# Altium schematic symbol library LSCB.SCHLIB: 94 symbols
Pins are listed as number, name and electrical type; pins without a type are passive.

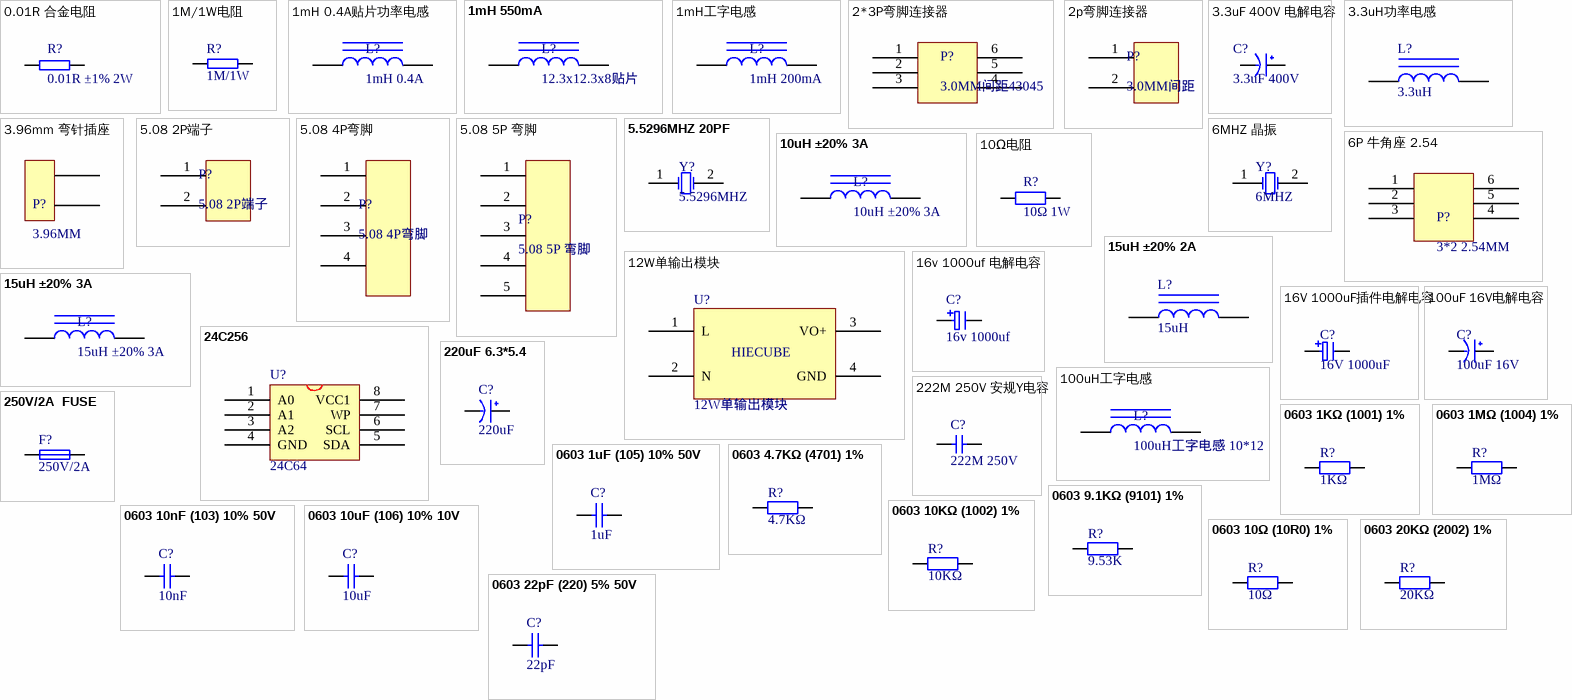
[diagram p0: symbols 0.01R 合金电阻 to 0603 22pF (220) 5% 50V]

## 0.01R 合金电阻
designator R?, comment 0.01R ±1% 2W
合金电阻; ComponentLink1Description: LC; ComponentLink1URL: https://item.szlcsc.com/69717.html
footprint 2512_R
pins: 1, 2

## 1M/1W电阻
designator R?, comment 1M/1W
电阻; 是否贴片: Y; ComponentLink1Description: 1218; ComponentLink1URL: https://item.szlcsc.com/187005.html; ComponentLink2Description: 插件; ComponentLink2URL: https://item.szlcsc.com/262747.html
footprint 泄放电阻
pins: 1, 2

## 1mH 0.4A贴片功率电感
designator L?, comment 1mH 0.4A
功率电感; ComponentLink1Description: FNR8065S102MT; ComponentLink1URL: https://item.szlcsc.com/179548.html; ComponentLink2Description: YNR8040-102M; ComponentLink2URL: https://item.szlcsc.com/318305.html
footprint FNR8065S (长江微电封闭式功率电感)
pins: 1, 2

## 1mH 550mA
designator L?, comment 12.3x12.3x8贴片
贴片功率电感; ComponentLink1Description: SXN; ComponentLink1URL: https://item.szlcsc.com/38464.html
footprint SMDRI127-102MT (1000uH ±20% 550mA)
pins: 1, 2

## 1mH工字电感
designator L?, comment 1mH 200mA
工字电感; ComponentLink1Description: SXN; ComponentLink1URL: https://item.szlcsc.com/27986.html
footprint 0608工字电感 (Footprint not found)
pins: 1, 2

## 2*3P弯脚连接器
designator P?, comment 3.0MM间距43045
PCB连接器; ComponentLink1Description: taobao; ComponentLink1URL: https://item.taobao.com/item.htm?spm=a1z09.2.0.0.20512e8d6q5xBr&id=534518784627&_u=5n70av7a8af
footprint 3.0mm 2*3p connector
pins: 1 15, 2 16, 3 17, 4 18, 5 19, 6 20

## 2p弯脚连接器
designator P?, comment 3.0MM间距
PCB连接器; ComponentLink1Description: 成套; ComponentLink1URL: https://item.taobao.com/item.htm?_u=6n70av72af4&id=531517058321; ComponentLink2Description: PCB座; ComponentLink2URL: https://item.taobao.com/item.htm?spm=2013.1.20141001.3.799636b2mcglLE&id=538107458803&scm=1007.12144.95220.42296_0&pvid=ca1741dd-b171-470b-ac9b-bd38a917f057&utparam=%7B%22x_hestia_source%22%3A%2242296%22%2C%22x_object_type%22%3A%22item%22%2C%22x_mt%22%3A0%2C%22x_src%22%3A%2242296%22%2C%22x_pos%22%3A3%2C%22x_pvid%22%3A%22ca1741dd-b171-470b-ac9b-bd38a917f057%22%2C%22x_object_id%22%3A538107458803%7D
footprint 3.0mm 2p connector
pins: 1, 2

## 3.3uF 400V 电解电容
designator C?, comment 3.3uF 400V
电解电容; ComponentLink1Description: lc; ComponentLink1URL: https://item.szlcsc.com/48911.html
footprint 6.3*12电解电容
pins: 1 VCC, 2 GND

## 3.3uH功率电感
designator L?, comment 3.3uH
贴片电感; Package: 0805; Supplier: LC; SuppliersPartNumber: C68035
footprint 功率电感3.3uH
pins: 1, 2

## 3.96mm 弯针插座
designator P?, comment 3.96MM
弯针插座; ComponentLink1Description: taobao; ComponentLink1URL: https://item.taobao.com/item.htm?spm=a1z10.3-c-s.w4002-16569462289.14.6c2f6a4bJFPH8g&id=522574898830; ComponentLink2Description: 插头; ComponentLink2URL: https://item.taobao.com/item.htm?spm=a1z10.5-c-s.w4002-21223910190.18.59cd3325Z7kJeH&id=522579292930
footprint HT396R (3.96mm 2p)
pins: 1 (power), 2 (power)

## 5.08 2P端子
designator P?
接线端子; ComponentLink1Description: taobao; ComponentLink1URL: https://detail.tmall.com/item.htm?spm=a230r.1.14.68.5ee57d4aczPgbH&id=13301862191&ns=1&abbucket=12&skuId=3609047311895
footprint 5.08 2P
pins: 1, 2

## 5.08 4P弯脚
designator P?
接线端子; ComponentLink1Description: taobao; ComponentLink1URL: https://detail.tmall.com/item.htm?spm=a230r.1.14.68.5ee57d4aczPgbH&id=13301862191&ns=1&abbucket=12&skuId=3609047311888
footprint 5.08 4P 弯 (Footprint not found)
pins: 1, 2, 3 (power), 4 (power)

## 5.08 5P 弯脚
designator P?
接线端子; ComponentLink1Description: taobao; ComponentLink1URL: https://detail.tmall.com/item.htm?spm=a230r.1.14.68.5ee57d4aczPgbH&id=13301862191&ns=1&abbucket=12&skuId=3609047311896
footprint 5.08 5P弯脚
pins: 1, 2, 3 (power), 4 (power), 5 (power)

## 5.5296MHZ 20PF
designator Y?, comment 5.5296MHZ
晶振; ComponentLink1Description: LC; ComponentLink1URL: https://item.szlcsc.com/49417.html
footprint HC-49SMD
pins: 1 OSC1, 2 OSC2

## 6MHZ 晶振
designator Y?, comment 6MHZ
晶振; ComponentLink1Description: LC; ComponentLink1URL: https://item.szlcsc.com/329471.html
footprint HC-49SMD
pins: 1 OSC1, 2 OSC2

## 6P 牛角座 2.54
designator P?, comment 3*2 2.54MM
牛角座; ComponentLink1Description: TAOBAO; ComponentLink1URL: https://detail.tmall.com/item.htm?spm=a220o.1000855.0.0.74994962t3KOAX&id=521368116881
footprint DC3 2.54MM 6P
pins: 1 (power), 2 (power), 3 (power), 4 (power), 5 (power), 6 (power)

## 10uH ±20% 3A
designator L?
功率电感; ComponentLink1Description: lc; ComponentLink1URL: https://item.szlcsc.com/193581.html
footprint FXL0630-100-M
pins: 1, 2

## 10Ω电阻
designator R?, comment 10Ω 1W
贴片电阻; ComponentLink1Description: 贴片; ComponentLink1URL: https://item.szlcsc.com/17545.html
footprint 2512
pins: 1, 2

## 12W单输出模块
designator U?
电源模块; ComponentLink1Description: TAOBAO; ComponentLink1URL: https://item.taobao.com/item.htm?spm=a1z10.5-c-s.w4002-16809978784.13.6826af48USMHs0&id=524546973317
footprint 12W单输出模块
pins: 1 L, 2 N, 3 VO+, 4 GND
text: HIECUBE

## 15uH ±20% 2A
designator L?, comment 15uH
贴片电感; Package: 0805; Supplier: LC; SuppliersPartNumber: C68035; ComponentLink1Description: LC; ComponentLink1URL: https://item.szlcsc.com/45890.html
footprint SWPA5040S150MT
pins: 1, 2

## 15uH ±20% 3A
designator L?
贴片功率电感; ComponentLink1Description: lc; ComponentLink1URL: https://item.szlcsc.com/193581.html
footprint SLO0630H150MTT
pins: 1, 2

## 16v 1000uf 电解电容
designator C?, comment 16v 1000uf
贴片电解电容; ComponentLink1Description: risym; ComponentLink1URL: https://detail.tmall.com/item.htm?spm=a1z10.5-b-s.w4011-20006199490.89.3ccf703dvRDeTC&id=17545497440&rn=d61f944ac5922fb756107958dbd658cd&abbucket=11&skuId=3959554730143; ComponentLink2Description: 立创; ComponentLink2URL: https://item.szlcsc.com/294428.html
footprint 25v 1000uf 电解电容
footprint C10/10.2 (贴片电解电容)
pins: 1, 2

## 16V 1000uF插件电解电容
designator C?, comment 16V 1000uF
电解电容; ComponentLink1Description: LC; ComponentLink1URL: https://item.szlcsc.com/44911.html
footprint 10x16mm电解电容
pins: 1, 2

## 24C256
designator U?, comment 24C64
EEPROM; ComponentLink1Description: M24C64-WMN6TP; ComponentLink1URL: https://item.szlcsc.com/8476.html
footprint SOP-8 (SOP)
footprint SOP_E150_8
footprint SOIC-8_150mil
pins: 1 A0, 2 A1, 3 A2, 4 GND, 5 SDA, 6 SCL, 7 WP, 8 VCC1

## 100uF 16V电解电容
designator C?, comment 100uF 16V
电解电容
footprint 5x7电解电容
pins: 1 VCC, 2 GND

## 100uH工字电感
designator L?, comment 100uH工字电感 10*12
工字电感; ComponentLink1Description: 风华; ComponentLink1URL: https://item.szlcsc.com/153798.html
footprint 100uH 10*12工字电感
pins: 1, 2

## 220uF 6.3*5.4
designator C?, comment 220uF
电解电容; ComponentLink1Description: 立创; ComponentLink1URL: https://item.szlcsc.com/257383.html
footprint C1206
footprint CAP2.54 (RB.1/.2)
footprint CAP5.08 (RB.2/.4)
footprint CAP7.62 (25V 2200uF)
footprint CAP10.16 (50V10000uF)
footprint CAP10.9 (50V 2200uF)
footprint CAP3.0 (100V 10uF)
footprint CAP8.0 (25V/4700uF)
footprint CAP8.0_2 (50V/4700uF)
footprint C7040 (7MM*4MM)
footprint CC1010 (SMD;W:10mm;L:10mm;)
footprint CC6.56.5
footprint CC88 (SMD;W:8mm;L:8mm;)
pins: 1 VCC, 2 GND

## 222M 250V 安规Y电容
designator C?, comment 222M 250V
Y 电容; ComponentLink1Description: taobao; ComponentLink1URL: https://detail.tmall.com/item.htm?spm=a1z10.5-b-s.w4011-20006199490.88.17b628e7CiXQqc&id=15351263377&rn=ff70967b1abad0010c0757b26aa399f8&abbucket=11; ComponentLink2Description: 立创; ComponentLink2URL: https://item.szlcsc.com/254376.html
footprint Y 电容
pins: 1, 2

## 250V/2A  FUSE
designator F?, comment 250V/2A
一次性保险丝; 是否贴片: Y; ComponentLink1Description: 2410; ComponentLink1URL: https://item.szlcsc.com/84963.html; ComponentLink2Description: 直插; ComponentLink2URL: https://item.szlcsc.com/19527.html
footprint 2410 (通常用于保险丝)
footprint fuse
pins: 1, 2

## 0603 1KΩ (1001) 1%
designator R?, comment 1KΩ
贴片电阻; ComponentLink1Description: 供应商链接; ComponentLink1URL: http://www.szlcsc.com/product/details_21904.html; Package: 0603; Supplier: LC; SuppliersPartNumber: C21190
footprint 0603_R
pins: 1, 2

## 0603 1MΩ (1004) 1%
designator R?, comment 1MΩ
贴片电阻; ComponentLink1Description: 供应商链接; ComponentLink1URL: http://www.szlcsc.com/product/details_23662.html; Package: 0603; Supplier: LC; SuppliersPartNumber: C22935
footprint 0603_R
pins: 1, 2

## 0603 1uF (105) 10% 50V
designator C?, comment 1uF
贴片电容; ComponentLink1Description: 供应商链接; ComponentLink1URL: http://www.szlcsc.com/product/details_16531.html; Package: 0603; Supplier: LC; SuppliersPartNumber: C15849
footprint 0603_C
pins: 1, 2

## 0603 4.7KΩ (4701) 1%
designator R?, comment 4.7KΩ
贴片电阻; ComponentLink1Description: 供应商链接; ComponentLink1URL: http://www.szlcsc.com/product/details_23889.html; Package: 0603; Supplier: LC; SuppliersPartNumber: C23162
footprint 0603_R
pins: 1, 2

## 0603 9.1KΩ (9101) 1%
designator R?, comment 9.53K
贴片电阻; Package: 0603; Supplier: LC; SuppliersPartNumber: C23260; ComponentLink1Description: TYOHM; ComponentLink1URL: https://item.szlcsc.com/305914.html
footprint 0603_R
pins: 1, 2

## 0603 10KΩ (1002) 1%
designator R?, comment 10KΩ
贴片电阻; ComponentLink1Description: 供应商链接; ComponentLink1URL: http://www.szlcsc.com/product/details_26547.html; Package: 0603; Supplier: LC; SuppliersPartNumber: C25804
footprint 0603_R
pins: 1, 2

## 0603 10nF (103) 10% 50V
designator C?, comment 10nF
贴片电容; ComponentLink1Description: 供应商链接; ComponentLink1URL: http://www.szlcsc.com/product/details_58143.html; Package: 0603; Supplier: LC; SuppliersPartNumber: C57112
footprint 0603_C
pins: 1, 2

## 0603 10uF (106) 10% 10V
designator C?, comment 10uF
贴片电容; ComponentLink1Description: 供应商链接; ComponentLink1URL: http://www.szlcsc.com/product/details_20411.html; Package: 0603; Supplier: LC; SuppliersPartNumber: C19702
footprint 0603_C
pins: 1, 2

## 0603 10Ω (10R0) 1%
designator R?, comment 10Ω
贴片电阻; ComponentLink1Description: 供应商链接; ComponentLink1URL: http://www.szlcsc.com/product/details_23586.html; Package: 0603; Supplier: LC; SuppliersPartNumber: C22859
footprint 0603_R
pins: 1, 2

## 0603 20KΩ (2002) 1%
designator R?, comment 20KΩ
贴片电阻; ComponentLink1Description: 供应商链接; ComponentLink1URL: http://www.szlcsc.com/product/details_4591.html; Package: 0603; Supplier: LC; SuppliersPartNumber: C4184
footprint 0603_R
pins: 1, 2

## 0603 22pF (220) 5% 50V
designator C?, comment 22pF
贴片电容; ComponentLink1Description: 供应商链接; ComponentLink1URL: http://www.szlcsc.com/product/details_2005.html; Package: 0603; Supplier: LC; SuppliersPartNumber: C1653
footprint 0603_C
pins: 1, 2

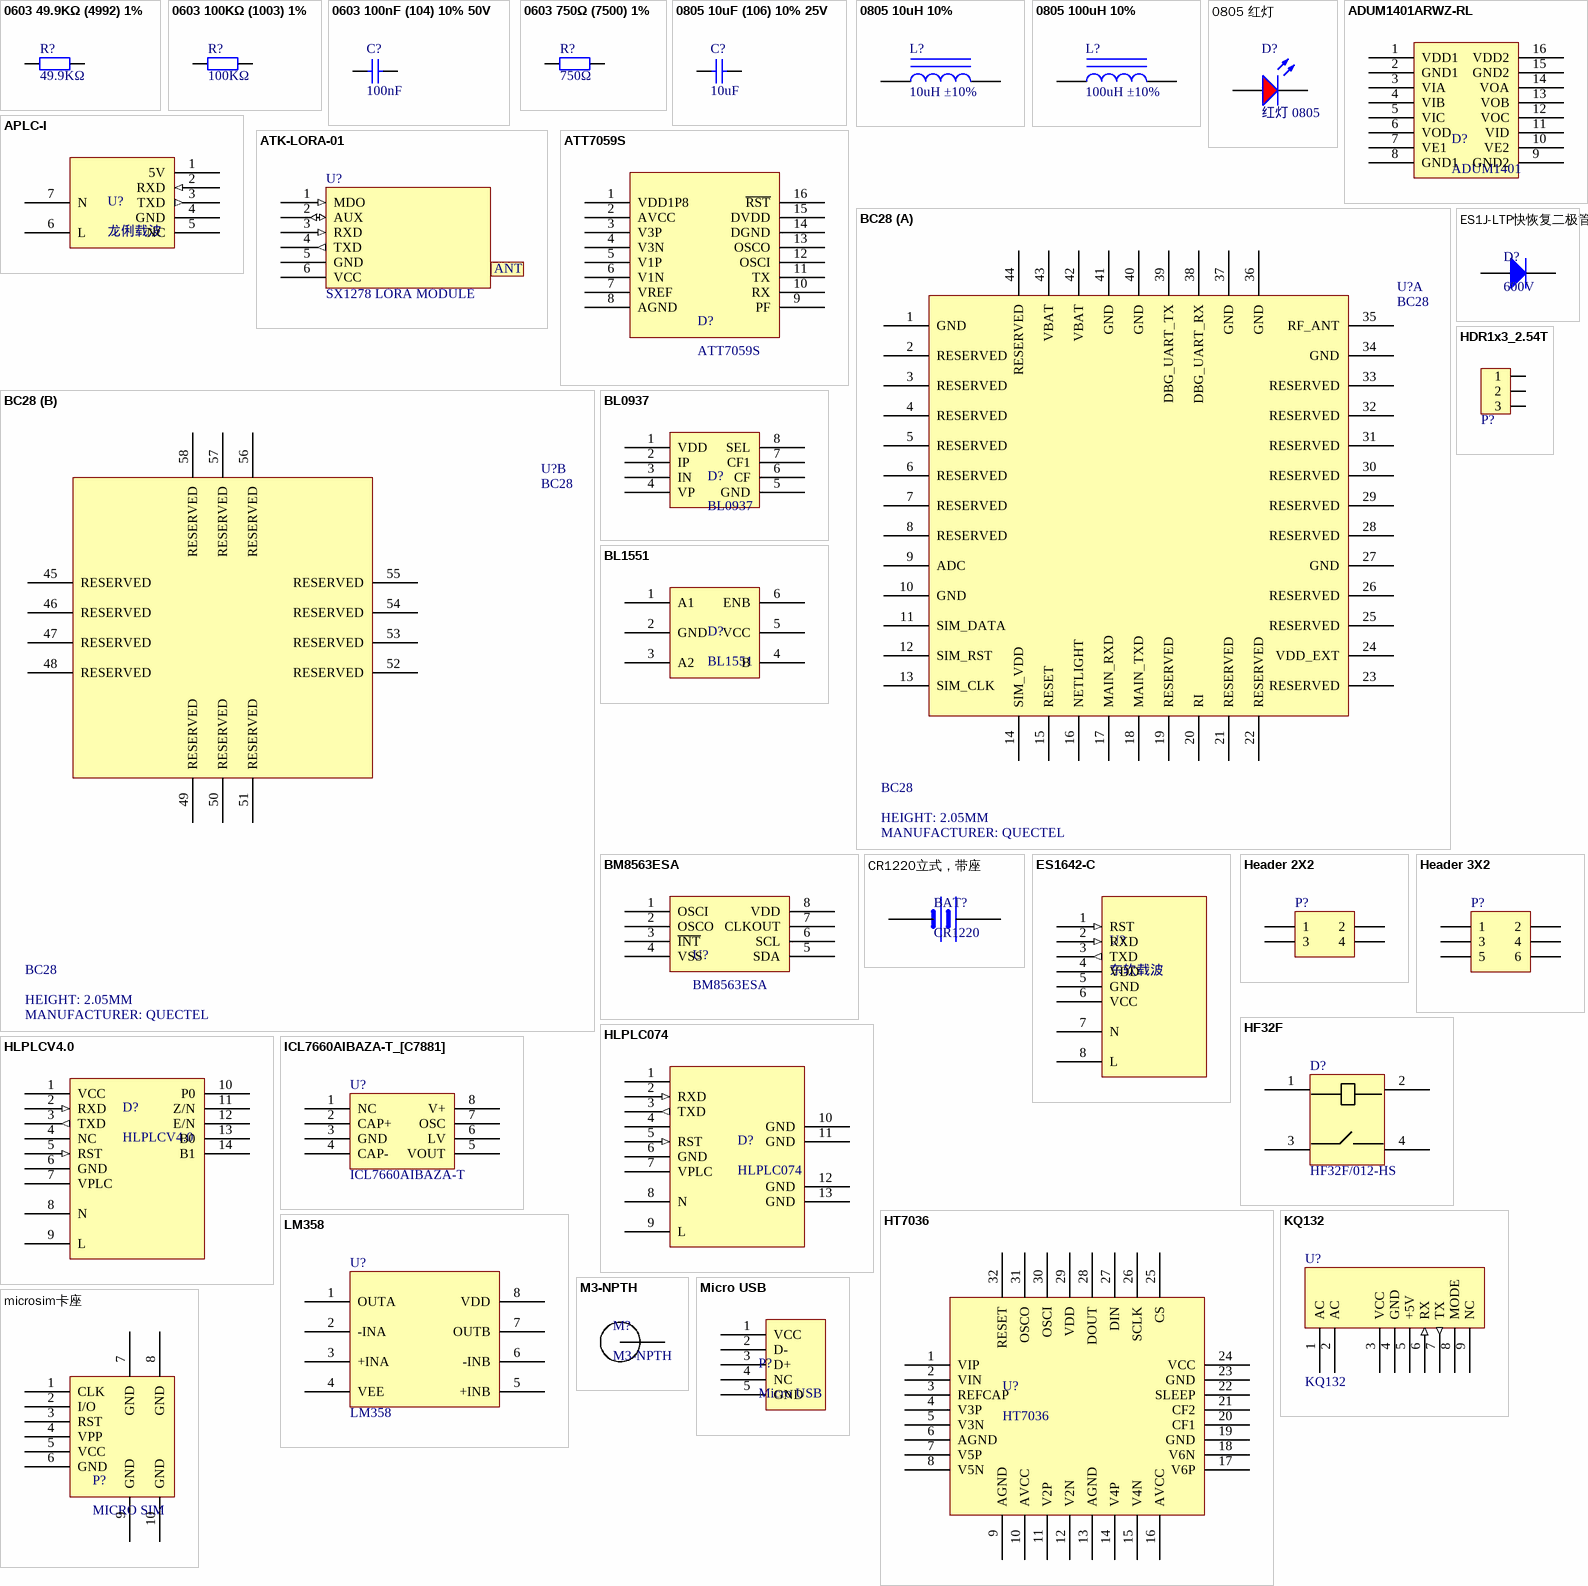
[diagram p1: symbols 0603 49.9KΩ (4992) 1% to microsim卡座]

## 0603 49.9KΩ (4992) 1%
designator R?, comment 49.9KΩ
贴片电阻; ComponentLink1Description: 供应商链接; ComponentLink1URL: http://www.szlcsc.com/product/details_23911.html; Package: 0603; Supplier: LC; SuppliersPartNumber: C23184
footprint 0603_R
pins: 1, 2

## 0603 100KΩ (1003) 1%
designator R?, comment 100KΩ
贴片电阻; ComponentLink1Description: 供应商链接; ComponentLink1URL: http://www.szlcsc.com/product/details_26546.html; Package: 0603; Supplier: LC; SuppliersPartNumber: C25803
footprint 0603_R
pins: 1, 2

## 0603 100nF (104) 10% 50V
designator C?, comment 100nF
贴片电容; ComponentLink1Description: 供应商链接; ComponentLink1URL: http://www.szlcsc.com/product/details_15331.html; Package: 0603; Supplier: LC; SuppliersPartNumber: C14663
footprint 0603_C
pins: 1, 2

## 0603 750Ω (7500) 1%
designator R?, comment 750Ω
贴片电阻; ComponentLink1Description: 供应商链接; ComponentLink1URL: http://www.szlcsc.com/product/details_23968.html; Package: 0603; Supplier: LC; SuppliersPartNumber: C23241
footprint 0603_R
pins: 1, 2

## 0805 10uF (106) 10% 25V
designator C?, comment 10uF
贴片电容; ComponentLink1Description: 供应商链接; ComponentLink1URL: http://www.szlcsc.com/product/details_16532.html; Package: 0805; Supplier: LC; SuppliersPartNumber: C15850
footprint 0805_C
pins: 1, 2

## 0805 10uH 10%
designator L?, comment 10uH ±10%
贴片电感; ComponentLink1Description: 供应商链接; ComponentLink1URL: http://www.szlcsc.com/product/details_1398.html; Package: 0805; Supplier: LC; SuppliersPartNumber: C1046
footprint 0805_L
pins: 1, 2

## 0805 100uH 10%
designator L?, comment 100uH ±10%
贴片电感; ComponentLink1Description: 供应商链接; ComponentLink1URL: http://www.szlcsc.com/product/details_69137.html; Package: 0805; Supplier: LC; SuppliersPartNumber: C68035
footprint 0805_L
pins: 1, 2

## 0805 红灯
designator D?, comment 红灯 0805
发光二极管; ComponentLink1Description: 供应商链接; ComponentLink1URL: http://www.szlcsc.com/product/details_2668.html; Package: 0805; Supplier: LC; SuppliersPartNumber: C2295
footprint 0805_LED_S1
pins: A, K

## ADUM1401ARWZ-RL
designator D?, comment ADUM1401
四路隔离芯片; ComponentLink1Description: LC; ComponentLink1URL: https://item.szlcsc.com/202472.html
footprint SOIC-16_300mil
pins: 1 VDD1 (power), 2 GND1 (power), 3 VIA (power), 4 VIB (power), 5 VIC (power), 6 VOD (power), 7 VE1 (power), 8 GND1 (power), 9 GND2 (power), 10 VE2 (power), 11 VID (power), 12 VOC (power), 13 VOB (power), 14 VOA (power), 15 GND2 (power), 16 VDD2 (power)

## APLC-I
designator U?, comment 龙俐载波
电力载波模块; ComponentLink1Description: taobao; ComponentLink1URL: https://item.taobao.com/item.htm?spm=a230r.1.14.42.69d149b9vwpLke&id=563715306260&ns=1&abbucket=16#detail
footprint APLC-I
pins: 1 5V (power), 2 RXD (in), 3 TXD (out), 4 GND (power), 5 NC, 6 L (power), 7 N (power)

## ATK-LORA-01
designator U?, comment SX1278 LORA MODULE
正点LoRa模块; 品牌/制造商: 正点原子; 是否贴片: N; 尺寸(mm): 36*20; ComponentLink1Description: taobao link; ComponentLink1URL: https://detail.tmall.com/item.htm?id=569474453419&spm=a1z09.2.0.0.72c82e8dXctZvP&_u=pn70av76033; 供应商: taobao; ComponentLink2Description: 规格书; ComponentLink2URL: D:\文档\LoRa\30，ATK-LORA-01无线串口模块资料\ATK-LORA-01无线串口模块用户手册_V1.1.pdf; ComponentLink3Description: datasheet; ComponentLink3URL: https://res.cloudinary.com/wksays/image/upload/v1542786664/ATK-LORA-01%E6%97%A0%E7%BA%BF%E4%B8%B2%E5%8F%A3%E6%A8%A1%E5%9D%97%E7%94%A8%E6%88%B7%E6%89%8B%E5%86%8C_V1.1.pdf
footprint ATK-LORA-01
pins: 1 MDO (in), 2 AUX (io), 3 RXD (in), 4 TXD (out), 5 GND (power), 6 VCC (power)
text: ANT

## ATT7059S
designator D?
电能计量芯片; ComponentLink1Description: LC; ComponentLink1URL: https://item.szlcsc.com/95013.html
footprint SSOP-16_150mil
pins: 1 VDD1P8 (power), 2 AVCC (power), 3 V3P (power), 4 V3N (power), 5 V1P (power), 6 V1N (power), 7 VREF (power), 8 AGND (power), 9 PF (power), 10 RX (power), 11 TX (power), 12 OSCI (power), 13 OSCO (power), 14 DGND (power), 15 DVDD (power), 16 ~{RST} (power)

## BC28
designator U?  HEIGHT: 2.05MM  MANUFACTURER: QUECTEL
NB-IoT模块; VALUE: BC28
footprint BC28
part A pins: 1 GND, 2 RESERVED, 3 RESERVED, 4 RESERVED, 5 RESERVED, 6 RESERVED, 7 RESERVED, 8 RESERVED, 9 ADC, 10 GND, 11 SIM_DATA, 12 SIM_RST, 13 SIM_CLK, 14 SIM_VDD, 15 RESET, 16 NETLIGHT, 17 MAIN_RXD, 18 MAIN_TXD, 19 RESERVED, 20 RI, 21 RESERVED, 22 RESERVED, 23 RESERVED, 24 VDD_EXT, 25 RESERVED, 26 RESERVED, 27 GND, 28 RESERVED, 29 RESERVED, 30 RESERVED, 31 RESERVED, 32 RESERVED, 33 RESERVED, 34 GND, 35 RF_ANT, 36 GND, 37 GND, 38 DBG_UART_RX, 39 DBG_UART_TX, 40 GND, 41 GND, 42 VBAT, 43 VBAT, 44 RESERVED
part B pins: 45 RESERVED, 46 RESERVED, 47 RESERVED, 48 RESERVED, 49 RESERVED, 50 RESERVED, 51 RESERVED, 52 RESERVED, 53 RESERVED, 54 RESERVED, 55 RESERVED, 56 RESERVED, 57 RESERVED, 58 RESERVED

## BL0937
designator D?
电能计量芯片; ComponentLink1Description: lc; ComponentLink1URL: https://item.szlcsc.com/95814.html
footprint SOP-8_150mil
pins: 1 VDD (power), 2 IP (power), 3 IN (power), 4 VP (power), 5 GND (power), 6 CF (power), 7 CF1 (power), 8 SEL (power)

## BL1551
designator D?
模拟开关; ComponentLink1Description: 立创; ComponentLink1URL: https://item.szlcsc.com/83685.html
footprint SC-70-6(SOT-363)
pins: 1 A1 (power), 2 GND (power), 3 A2 (power), 4 B (power), 5 VCC (power), 6 ENB (power)

## BM8563ESA
designator U?
时钟芯片; ComponentLink1Description: LC; ComponentLink1URL: https://item.szlcsc.com/259221.html
footprint SOP-8_150mil
pins: 1 OSCI (power), 2 OSCO (power), 3 ~{INT} (power), 4 VSS (power), 5 SDA (power), 6 SCL (power), 7 CLKOUT (power), 8 VDD (power)

## CR1220立式，带座
designator BAT?, comment CR1220
纽扣电池; ComponentLink1Description: 淘宝; ComponentLink1URL: https://detail.tmall.com/item.htm?spm=a1z10.5-b-s.w4011-20006199490.122.4d7f5f29L1HS34&id=570340938215&rn=d59cc3b3a4e2d0a1b3a00b4f2b7a689b&abbucket=11
footprint CR1220
pins: 1 N (power), 2 P (power)

## ES1J-LTP快恢复二极管
designator D?, comment 600V
快恢复二极管; ComponentLink1Description: LC; ComponentLink1URL: https://item.szlcsc.com/87737.html
footprint SMA(DO-214AC)_S1
pins: 1 A, 2 K

## ES1642-C
designator U?, comment 东软载波
电力载波模块; ComponentLink1Description: taobao; ComponentLink1URL: https://detail.tmall.com/item.htm?id=574538143589&spm=a1z09.2.0.0.69992e8dFx4eR8&_u=rn70av7da3e
footprint ES1642-C
pins: 1 RST (in), 2 RXD (in), 3 TXD (out), 4 VDD (power), 5 GND (power), 6 VCC (power), 7 N (power), 8 L (power)

## HDR1x3_2.54T
designator P?, comment HDR1x3_2.54  (value not drawn)
Header
footprint HDR1X3_2.54_90
footprint HDR1X3_2.54_90F
footprint HDR1X3_2.54_180
footprint HDR1X3_2.54_180F
footprint HDR1X3_2.54_180
pins: 1, 2, 3

## Header 2X2
designator P?, comment 2*2P 2mm  (value not drawn)
PCB连接器; LatestRevisionDate: 17-Jul-2002; LatestRevisionNote: Re-released for DXP Platform.; Publisher: Altium Limited
footprint HDR2X2 (Connector; Header; 2x2 Position)
signal-integrity model Connector
footprint Hearder2 2X2
pins: 1, 2, 3, 4

## Header 3X2
designator P?
Header, 3-Pin, Dual row; LatestRevisionDate: 17-Jul-2002; LatestRevisionNote: Re-released for DXP Platform.; Publisher: Altium Limited
footprint HDR2X3 (Connector; Header; 3x2 Position)
signal-integrity model Connector
pins: 1, 2, 3, 4, 5, 6

## HF32F
designator D?, comment HF32F/012-HS
常开式继电器; ComponentLink1Description: HF32F/012-HS; ComponentLink1URL: https://item.szlcsc.com/28304.html; ComponentLink2Description: HF32F-G/012-HS; ComponentLink2URL: https://item.szlcsc.com/54578.html
footprint HF32F/012HS (RELAY)
pins: 1, 2, 3, 4

## HLPLC074
designator D?
电力载波模块; ComponentLink1Description: taobao; ComponentLink1URL: https://item.taobao.com/item.htm?spm=2013.1.20141001.1.51504b72V2hh6V&id=564043752859&scm=1007.12144.95220.42296_0&pvid=e647fad8-c450-45d0-a563-9ad713afcd98&utparam=%7B%22x_hestia_source%22%3A%2242296%22%2C%22x_object_type%22%3A%22item%22%2C%22x_mt%22%3A0%2C%22x_src%22%3A%2242296%22%2C%22x_pos%22%3A1%2C%22x_pvid%22%3A%22e647fad8-c450-45d0-a563-9ad713afcd98%22%2C%22x_object_id%22%3A564043752859%7D
footprint HLPLC074 (Footprint not found)
pins: 1 TEST "reserved", 2 RXD (in), 3 TXD (out), 4 TEST "RESERVED", 5 RST (in), 6 GND, 7 VPLC, 8 N, 9 L, 10 GND, 11 GND, 12 GND, 13 GND

## HLPLCV4.0
designator D?
电力载波模块; ComponentLink1Description: taobao; ComponentLink1URL: https://item.taobao.com/item.htm?spm=a1z09.2.0.0.20512e8d6q5xBr&id=530240576085&_u=5n70av76b7c
footprint HLPLCV4.0
pins: 1 VCC "reserved", 2 RXD (in), 3 TXD (out), 4 NC "RESERVED", 5 RST (in), 6 GND, 7 VPLC, 8 N, 9 L, 10 P0, 11 Z/N, 12 E/N, 13 B0, 14 B1

## HT7036
designator U?
电能计量芯片; ComponentLink1Description: LC; ComponentLink1URL: https://item.szlcsc.com/95005.html
footprint LQFP-32_7x7x08P
pins: 1 VIP (power), 2 VIN (power), 3 REFCAP (power), 4 V3P (power), 5 V3N (power), 6 AGND (power), 7 V5P (power), 8 V5N (power), 9 AGND (power), 10 AVCC (power), 11 V2P (power), 12 V2N (power), 13 AGND (power), 14 V4P (power), 15 V4N (power), 16 AVCC (power), 17 V6P (power), 18 V6N (power), 19 GND (power), 20 CF1 (power), 21 CF2 (power), 22 SLEEP (power), 23 GND (power), 24 VCC (power), 25 CS (power), 26 SCLK (power), 27 DIN (power), 28 DOUT (power), 29 VDD (power), 30 OSCI (power), 31 OSCO (power), 32 RESET (power)

## ICL7660AIBAZA-T_[C7881]
designator U?, comment ICL7660AIBAZA-T
电源芯片; ComponentLink1Description: 供应商链接; ComponentLink1URL: http://www.szlcsc.com/product/details_8358.html; Package: SOIC-8_150mil; Supplier: LC; SuppliersPartNumber: C7881
footprint SOIC-8_150mil
pins: 1 NC, 2 CAP+, 3 GND, 4 CAP-, 5 VOUT, 6 LV, 7 OSC, 8 V+

## KQ132
designator U?
电力载波模块; ComponentLink1Description: TAOBAO; ComponentLink1URL: https://item.taobao.com/item.htm?spm=a230r.1.14.24.731864d3fKxFU1&id=525040155947&ns=1&abbucket=17#detail
footprint KQ132
pins: 1 AC, 2 AC, 3 VCC, 4 GND, 5 +5V, 6 RX (in), 7 TX (out), 8 MODE, 9 NC

## LM358
designator U?
双运算放大器; ComponentLink1Description: LM358-SR; ComponentLink1URL: https://item.szlcsc.com/94344.html
footprint SOIC-8_150mil
pins: 1 OUTA, 2 -INA, 3 +INA, 4 VEE, 5 +INB, 6 -INB, 7 OUTB, 8 VDD

## M3-NPTH
designator M?
非金属化孔
footprint M3_NPTH
pins: 1 (power)

## Micro USB
designator P?
USB接口; ComponentLink1Description: LC; ComponentLink1URL: https://item.szlcsc.com/22094.html
footprint micro usb
pins: 1 VCC (power), 2 D- (power), 3 D+ (power), 4 NC (power), 5 GND (power)

## microsim卡座
designator P?, comment MICRO SIM
MICRO SIM卡座; ComponentLink1Description: 自弹; ComponentLink1URL: https://item.szlcsc.com/256989.html
footprint MICRO SIM卡座
pins: 1 CLK (power), 2 I/O (power), 3 RST (power), 4 VPP (power), 5 VCC (power), 6 GND (power), 7 GND (power), 8 GND (power), 9 GND (power), 10 GND (power)

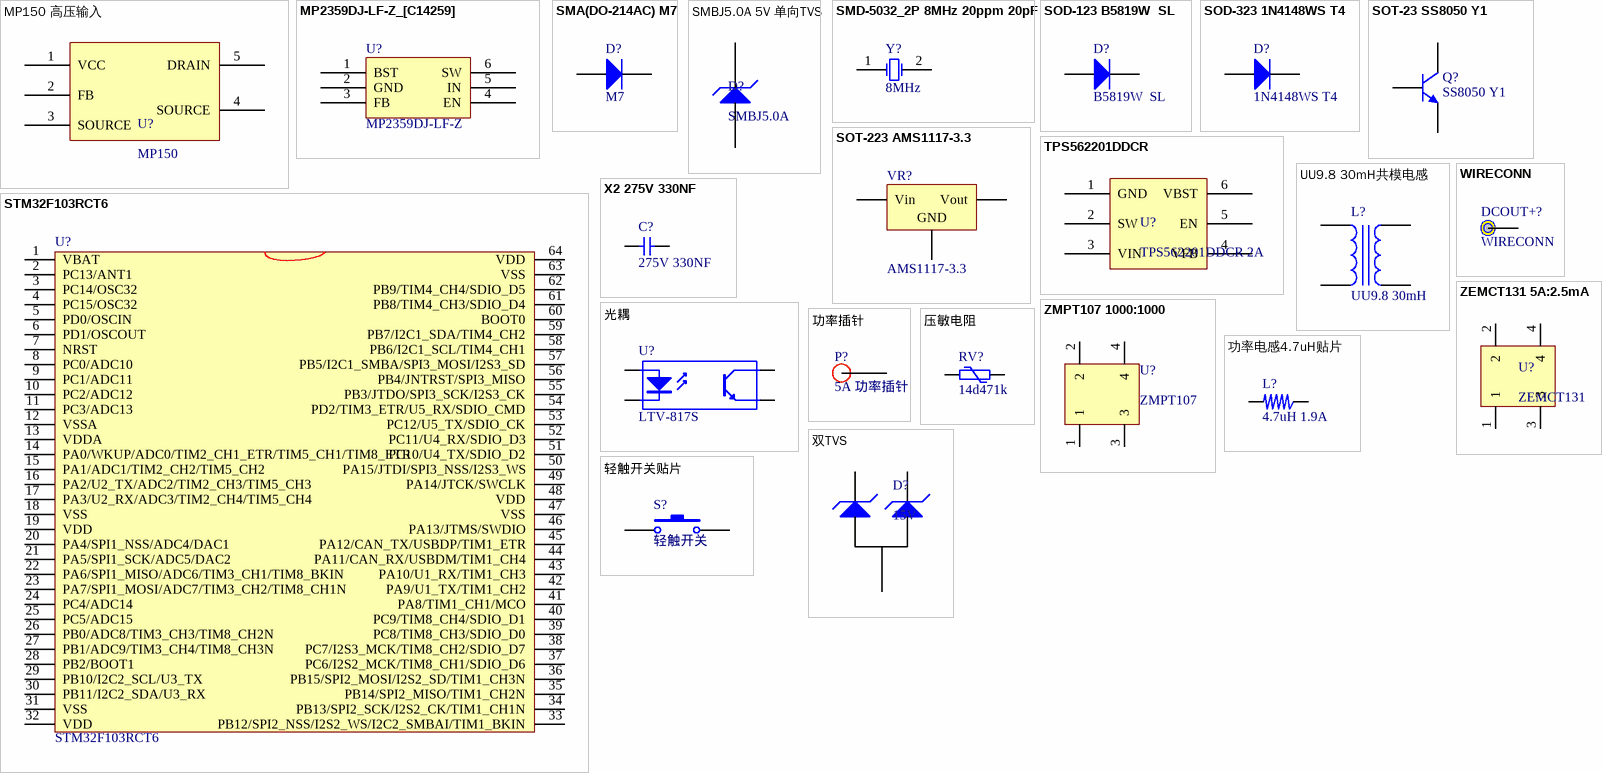
[diagram p2: symbols MP150 高压输入 to 轻触开关贴片]

## MP150 高压输入
designator U?, comment MP150
电源芯片; ComponentLink1Description: LC; ComponentLink1URL: https://item.szlcsc.com/56225.html
footprint SOT-23-5
pins: 1 VCC (power), 2 FB (power), 3 SOURCE (power), 4 SOURCE (power), 5 DRAIN (power)

## MP2359DJ-LF-Z_[C14259]
designator U?, comment MP2359DJ-LF-Z
DC-DC芯片; ComponentLink1Description: 供应商链接; ComponentLink1URL: http://www.szlcsc.com/product/details_14917.html; Package: SOT-23-6; Supplier: LC; SuppliersPartNumber: C14259
footprint SOT-23-6
pins: 1 BST, 2 GND, 3 FB, 4 EN, 5 IN, 6 SW

## SMA(DO-214AC) M7
designator D?, comment M7
二极管; Notepad: 1N4007 4007 编号C2464 已经停售, 使用新物料编号C95872; ComponentLink1Description: 供应商链接; ComponentLink1URL: http://www.szlcsc.com/product/details_2841.html; Package: SMA(DO-214AC); Supplier: LC; SuppliersPartNumber: C95872
footprint SMA(DO-214AC)_S1
pins: 1 A, 2 K

## SMBJ5.0A 5V 单向TVS
designator D?, comment SMBJ5.0A
TVS管; ComponentLink1Description: LC; ComponentLink1URL: https://item.szlcsc.com/301335.html
footprint SMB(DO-214AA)_S1
pins: 1 (power), 2 (power)

## SMD-5032_2P 8MHz 20ppm 20pF
designator Y?, comment 8MHz
贴片晶振; ComponentLink1Description: 供应商链接; ComponentLink1URL: http://www.szlcsc.com/product/details_117214.html; Package: SMD-5032_2P; Supplier: LC; SuppliersPartNumber: C115962
footprint SMD-5032_2P
pins: 1 OSC1, 2 OSC2

## SOD-123 B5819W  SL
designator D?, comment B5819W  SL
肖特基二极管; ComponentLink1Description: 供应商链接; ComponentLink1URL: http://www.szlcsc.com/product/details_9093.html; Package: SOD-123; Supplier: LC; SuppliersPartNumber: C8598
footprint SOD-123
pins: 1 A, 2 K

## SOD-323 1N4148WS T4
designator D?, comment 1N4148WS T4
二极管; ComponentLink1Description: 供应商链接; ComponentLink1URL: http://www.szlcsc.com/product/details_2485.html; Package: SOD-323; Supplier: LC; SuppliersPartNumber: C2128
footprint SOD-323
pins: 1 A, 2 K

## SOT-23 SS8050 Y1
designator Q?, comment SS8050 Y1
三极管; ComponentLink1Description: 供应商链接; ComponentLink1URL: http://www.szlcsc.com/product/details_2507.html; Package: SOT-23; Supplier: LC; SuppliersPartNumber: C2150
footprint SOT-23(SOT-23-3)
pins: 1 B, 2 E, 3 C

## SOT-223 AMS1117-3.3
designator VR?, comment AMS1117-3.3
低压差线性稳压(LDO); ComponentLink1Description: 供应商链接; ComponentLink1URL: http://www.szlcsc.com/product/details_6652.html; Package: SOT-223; Supplier: LC; SuppliersPartNumber: C6186
footprint SOT-223
pins: 1 GND, 2 Vout, 3 Vin

## STM32F103RCT6
designator U?
ComponentLink1Description: datasheet; ComponentLink1URL: https://www.st.com/resource/en/datasheet/cd00191185.pdf
footprint LQFP-64_10x10x05P
pins: 1 VBAT, 2 PC13/ANT1, 3 PC14/OSC32, 4 PC15/OSC32, 5 PD0/OSCIN, 6 PD1/OSCOUT, 7 NRST, 8 PC0/ADC10, 9 PC1/ADC11, 10 PC2/ADC12, 11 PC3/ADC13, 12 VSSA, 13 VDDA, 14 PA0/WKUP/ADC0/TIM2_CH1_ETR/TIM5_CH1/TIM8_ETR, 15 PA1/ADC1/TIM2_CH2/TIM5_CH2, 16 PA2/U2_TX/ADC2/TIM2_CH3/TIM5_CH3, 17 PA3/U2_RX/ADC3/TIM2_CH4/TIM5_CH4, 18 VSS, 19 VDD, 20 PA4/SPI1_NSS/ADC4/DAC1, 21 PA5/SPI1_SCK/ADC5/DAC2, 22 PA6/SPI1_MISO/ADC6/TIM3_CH1/TIM8_BKIN, 23 PA7/SPI1_MOSI/ADC7/TIM3_CH2/TIM8_CH1N, 24 PC4/ADC14, 25 PC5/ADC15, 26 PB0/ADC8/TIM3_CH3/TIM8_CH2N, 27 PB1/ADC9/TIM3_CH4/TIM8_CH3N, 28 PB2/BOOT1, 29 PB10/I2C2_SCL/U3_TX, 30 PB11/I2C2_SDA/U3_RX, 31 VSS, 32 VDD, 33 PB12/SPI2_NSS/I2S2_WS/I2C2_SMBAI/TIM1_BKIN, 34 PB13/SPI2_SCK/I2S2_CK/TIM1_CH1N, 35 PB14/SPI2_MISO/TIM1_CH2N, 36 PB15/SPI2_MOSI/I2S2_SD/TIM1_CH3N, 37 PC6/I2S2_MCK/TIM8_CH1/SDIO_D6, 38 PC7/I2S3_MCK/TIM8_CH2/SDIO_D7, 39 PC8/TIM8_CH3/SDIO_D0, 40 PC9/TIM8_CH4/SDIO_D1, 41 PA8/TIM1_CH1/MCO, 42 PA9/U1_TX/TIM1_CH2, 43 PA10/U1_RX/TIM1_CH3, 44 PA11/CAN_RX/USBDM/TIM1_CH4, 45 PA12/CAN_TX/USBDP/TIM1_ETR, 46 PA13/JTMS/SWDIO, 47 VSS, 48 VDD, 49 PA14/JTCK/SWCLK, 50 PA15/JTDI/SPI3_NSS/I2S3_WS, 51 PC10/U4_TX/SDIO_D2, 52 PC11/U4_RX/SDIO_D3, 53 PC12/U5_TX/SDIO_CK, 54 PD2/TIM3_ETR/U5_RX/SDIO_CMD, 55 PB3/JTDO/SPI3_SCK/I2S3_CK, 56 PB4/JNTRST/SPI3_MISO, 57 PB5/I2C1_SMBA/SPI3_MOSI/I2S3_SD, 58 PB6/I2C1_SCL/TIM4_CH1, 59 PB7/I2C1_SDA/TIM4_CH2, 60 BOOT0, 61 PB8/TIM4_CH3/SDIO_D4, 62 PB9/TIM4_CH4/SDIO_D5, 63 VSS, 64 VDD

## TPS562201DDCR
designator U?, comment TPS562201DDCR 2A
DCDC芯片; ComponentLink1Description: TPS562201DDCR; ComponentLink1URL: https://item.szlcsc.com/91246.html
footprint SOT-23-6
pins: 1 GND (power), 2 SW (power), 3 VIN (power), 4 VFB (power), 5 EN (power), 6 VBST (power)

## UU9.8 30mH共模电感
designator L?, comment UU9.8 30mH
共模电感; ComponentLink1Description: risym; ComponentLink1URL: https://detail.tmall.com/item.htm?spm=a1z10.3-b-s.w4011-20005281832.42.54825535bXg3wo&id=571490720780&rn=dcb9203be114001fc3d4afe6c0320bd0&abbucket=11&skuId=3794754837798; ComponentLink2Description: 风华lc; ComponentLink2URL: https://item.szlcsc.com/75490.html
footprint LCM1 输入共模电感
pins: 1, 2, 3, 4

## WIRECONN
designator DCOUT+?
接线端子
footprint WIRECONN
pins: 1

## X2 275V 330NF
designator C?, comment 275V 330NF
X电容; ComponentLink1Description: 脚距10; ComponentLink1URL: https://item.szlcsc.com/146980.html
footprint X电容
pins: 1, 2

## ZEMCT131 5A:2.5mA
designator U?, comment ZEMCT131
电流互感器; ComponentLink1Description: datasheet; ComponentLink1URL: http://www.zeming-e.com/prodviewtype1-270.html; ComponentLink2Description: 立创; ComponentLink2URL: https://item.szlcsc.com/119186.html
footprint zemct131
pins: 1, 2, 3, 4

## ZMPT107 1000:1000
designator U?, comment ZMPT107
电流互感器; ComponentLink1Description: 立创; ComponentLink1URL: https://item.szlcsc.com/95770.html
footprint ZMPT107
pins: 1, 2, 3, 4

## 光耦
designator U?, comment LTV-817S
光电耦合器; Published: 24-Mar-1999; LatestRevisionDate: 04-Mar-2005; LatestRevisionNote: Sch pins 3 & 4 Swapped.; DatasheetVersion: Nov-2003; PackageReference: DIP-4; Publisher: Altium Limited; ComponentLink1Description: LTV-817S-TA1-B; ComponentLink1URL: https://item.szlcsc.com/110447.html
footprint LTV-817S (Footprint not found)
pins: 1 A "Anode", 2 K "Cathode", 3 E "Emitter", 4 C "Collector"

## 功率插针
designator P?, comment 5A 功率插针
功率连接器; ComponentLink1Description: RT-01T-1.0B; ComponentLink1URL: https://item.szlcsc.com/255603.html
footprint RT-01T-1.0B (功率插针)
pins: 1 N (power)

## 功率电感4.7uH贴片
designator L?, comment 4.7uH 1.9A
功率电感; ComponentLink1Description: 立创; ComponentLink1URL: https://item.szlcsc.com/288353.html
footprint L_SOPL (L_LARGE)
footprint L_SOPS (L_4*4)
footprint L10 (10mH)
footprint L_SOP74 (7.4*7.4)
footprint 功率电感 4R7 (4.5*4*3.2)
pins: 1, 2

## 压敏电阻
designator RV?, comment 14d471k
压敏电阻; 是否贴片: N; ComponentLink1Description: 立创; ComponentLink1URL: https://item.szlcsc.com/100543.html
footprint 压敏电阻
pins: 1, 2

## 双TVS
designator D?, comment 15V
TVS; ComponentLink1Description: MMBZ15VALT1G; ComponentLink1URL: https://item.szlcsc.com/23308.html
footprint SOT-23(SOT-23-3)
pins: 1 K, 2 K, 3 (power)

## 轻触开关贴片
designator S?, comment 轻触开关
Published: 24-Mar-1999; LatestRevisionDate: 17-Jul-2002; LatestRevisionNote: Re-released for DXP Platform.; PackageReference: SPST-2; Publisher: Altium Limited; PackageDescription: Switch; 2 Leads; ComponentLink1Description: LC; ComponentLink1URL: https://item.szlcsc.com/300364.html
footprint SPST-2 (Switch; 2 Leads)
footprint SW-2P-SMD (6.1x3.7x2.5)
pins: 1, 2